# Altium footprint library SamacSys.PcbLib: 25 footprints (part 1 of 2)
Each footprint in its own frame and in the unit in brackets; x right, y up, seen from the top. Pads: shape width x height; smd on the part's side, far side on the other; paste and mask are expansions set on the pad; w line width, h text height; cw(c..) or ccw(c..) is an arc to the next point about the centre after c.
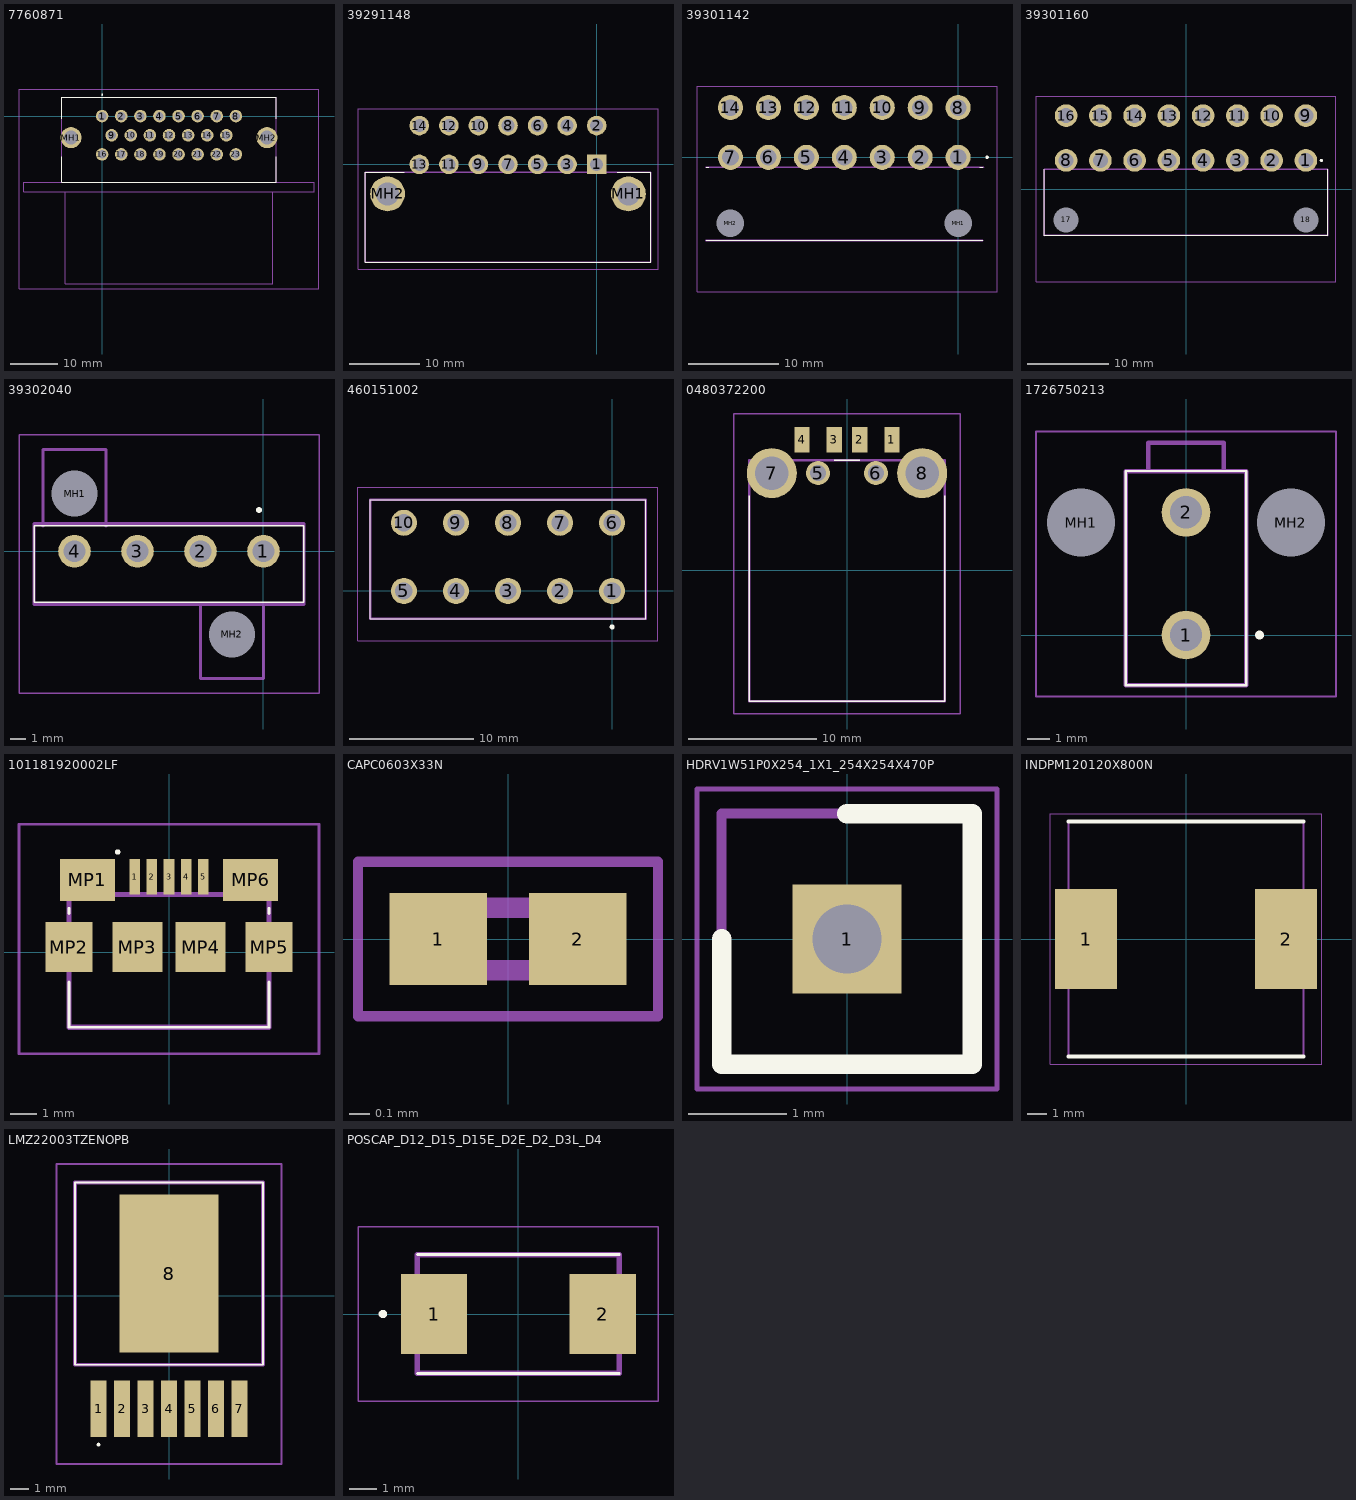
[diagram p0: the footprints below, top view; thin cyan lines are the x and y axes]

## 7760871 [mm]
pads (25):
  round 2.625 hole 1.75: 1(0,0) 2(4,0) 3(8,0) 4(12,0) 5(16,0) 6(20,0) 7(24,0) 8(28,0) 9(2,-4) 10(6,-4) 11(10,-4) 12(14,-4) 13(18,-4) 14(22,-4) 15(26,-4) 16(0,-8) 17(4,-8) 18(8,-8) 19(12,-8) 20(16,-8) 21(20,-8) 22(24,-8) 23(28,-8)
  round 4.395 hole 2.93: MH1(-6.5,-4.5) MH2(34.5,-4.5)
Top Overlay:
  lines w0.1: -8.5,-8.5 -8.5,-13.8 36.5,-13.8 36.5,-8.5 ; -8.5,-0.5 -8.5,4 36.5,4 36.5,-0.5
  lines w0.2: -0.1,4.5 ccw(c0,4.5) 0.1,4.5 ccw(c0,4.5) -0.1,4.5
Mechanical 13:
  lines w0.2: -7.7,-15.8 -7.7,-35.1 35.7,-35.1 35.7,-15.8 ; -8.5,-13.8 -16.4,-13.8 -16.4,-15.8 44.4,-15.8 44.4,-13.8 36.5,-13.8 ; -8.5,-13.8 -8.5,4 36.5,4 36.5,-13.8 ; -8.5,-13.8 36.5,-13.8
Mechanical 15:
  lines w0.1: -17.4,-36.1 -17.4,5.6 45.4,5.6 45.4,-36.1 -17.4,-36.1
3D body "776087-1.stp": height 27.48, standoff -4.62, extent -16.4,-35.73 44.4,2.07

## 39291148 [mm]
pads (16):
  rect 2.775x2.775 hole 1.85: 1(0,0)
  round 2.775 hole 1.85: 2(0,5.5) 3(-4.2,0) 4(-4.2,5.5) 5(-8.4,0) 6(-8.4,5.5) 7(-12.6,0) 8(-12.6,5.5) 9(-16.8,0) 10(-16.8,5.5) 11(-21,0) 12(-21,5.5) 13(-25.2,0) 14(-25.2,5.5)
  round 4.95 hole 3.3: MH1(4.5,-4.2) MH2(-29.7,-4.2)
Top Overlay:
  lines w0.1: -32.9,-1.1 -32.9,-13.9 -32.9,-1.1 ; -32.9,-1.1 -27.35,-1.1 -32.9,-1.1 ; 7.7,-13.9 7.7,-1.1 ; 7.7,-13.9 7.7,-1.1 ; 7.7,-13.9 -32.85,-13.9 7.7,-13.9 ; 7.7,-1.1 2.9,-1.1 7.7,-1.1
Mechanical 13:
  lines w0.2: -32.9,-13.9 -32.9,-1.1 7.7,-1.1 7.7,-13.9 -32.9,-13.9
Mechanical 15:
  lines w0.1: -33.9,-14.9 -33.9,7.887 8.7,7.887 8.7,-14.9 -33.9,-14.9
3D body "39-29-1148.stp": height 11.4, standoff -3.5, extent -32.92,-13.87 7.68,6.065

## 39301142 [mm]
pads (16):
  round 2.775 hole 1.85: 1(0,0) 2(-4.2,0) 3(-8.4,0) 4(-12.6,0) 5(-16.8,0) 6(-21,0) 7(-25.2,0) 8(0,5.5) 9(-4.2,5.5) 10(-8.4,5.5) 11(-12.6,5.5) 12(-16.8,5.5) 13(-21,5.5) 14(-25.2,5.5)
  round 1.525 hole 3.05 unplated: MH1(0,-7.3) MH2(-25.2,-7.3)
Top Overlay:
  lines w0.1: -27.9,-9.201 2.7,-9.201 ; -27.9,-1.1 -27.6,-1.1 ; 2.4,-1.1 2.7,-1.1
  lines w0.2: 3.1,0 ccw(c3.2,0) 3.3,0 ccw(c3.2,0) 3.1,0
Mechanical 13:
  lines w0.2: -27.9,-9.201 2.7,-9.201 ; -27.9,-1.1 2.794,-1.1
Mechanical 15:
  lines w0.1: -28.9,-14.9 -28.9,7.888 4.3,7.888 4.3,-14.9 -28.9,-14.9
3D body "39-30-1140.stp": height 11.4, standoff -3.6, extent -27.82,-13.87 3.18,6.065

## 39301160 [mm]
pads (18):
  round 2.775 hole 1.85: 1(14.7,3.506) 2(10.5,3.506) 3(6.3,3.506) 4(2.1,3.506) 5(-2.1,3.506) 6(-6.3,3.506) 7(-10.5,3.506) 8(-14.7,3.506) 9(14.7,9.006) 10(10.5,9.006) 11(6.3,9.006) 12(2.1,9.006) 13(-2.1,9.006) 14(-6.3,9.006) 15(-10.5,9.006) 16(-14.7,9.006)
  round 1.525 hole 3.05 unplated: 17(-14.7,-3.794) 18(14.7,-3.794)
Top Overlay:
  lines w0.1: -17.4,-5.715 -17.4,2.406 ; -17.4,-5.695 17.4,-5.695 ; 17.4,-5.715 17.4,2.406
  lines w0.2: 16.6,3.406 cw(c16.6,3.506) 16.6,3.606 cw(c16.6,3.506) 16.6,3.406
Mechanical 13:
  lines w0.2: -17.4,-5.715 -17.4,2.406 17.4,2.406 17.4,-5.715 ; -17.4,-5.695 -8.7,-5.695 8.7,-5.695 17.4,-5.695
Mechanical 15:
  lines w0.1: -18.4,-11.394 -18.4,11.394 18.4,11.394 18.4,-11.394 -18.4,-11.394
3D body "39-30-0160.stp": height 11.4, standoff -3.6, extent -17.33,-10.38 17.87,9.555

## 39302040 [mm]
pads (6):
  round 2.175 hole 1.45: 1(0,0) 2(-4.2,0) 3(-8.4,0) 4(-12.6,0)
  round 1.525 hole 3.05 unplated: MH1(-12.6,3.85) MH2(-2.1,-5.55)
Top Overlay:
  lines w0.1: -15.3,-3.39 2.7,-3.39 2.7,1.69 -15.3,1.69 -15.3,-3.39
  lines w0.2: -0.3,2.65 ccw(c-0.3,2.75) -0.3,2.85 ccw(c-0.3,2.75) -0.3,2.65
Mechanical 13:
  lines w0.2: -14.7,1.69 -14.7,6.77 -10.5,6.77 -10.5,1.69 ; -4.2,-3.55 -4.2,-8.47 0,-8.47 0,-3.55 ; -15.3,-3.55 2.7,-3.55 2.7,1.85 -15.3,1.85 -15.3,-3.55
Mechanical 15:
  lines w0.1: -16.3,-9.47 3.7,-9.47 3.7,7.77 -16.3,7.77 -16.3,-9.47
3D body "39-30-2040.stp": height 12.71, standoff -3.59, extent -15.3,-6.629 2.7,4.929

## 460151002 [mm]
pads (10):
  round 2.1 hole 1.4: 1(0,0) 2(-4.2,0) 3(-8.4,0) 4(-12.6,0) 5(-16.8,0) 6(0,5.5) 7(-4.2,5.5) 8(-8.4,5.5) 9(-12.6,5.5) 10(-16.8,5.5)
Top Overlay:
  lines w0.1: -19.5,-2.25 -19.5,7.35 2.7,7.35 2.7,-2.25 -19.5,-2.25
  lines w0.2: -0.1,-2.9 cw(c0,-2.9) 0.1,-2.9 cw(c0,-2.9) -0.1,-2.9
Mechanical 13:
  lines w0.2: -19.5,-2.25 -19.5,7.35 2.7,7.35 2.7,-2.25 -19.5,-2.25
Mechanical 15:
  lines w0.1: -20.5,-4 -20.5,8.35 3.7,8.35 3.7,-4 -20.5,-4
3D body "46015-1002.stp": height 12.72, standoff -3.58, extent -19.5,-2.3 3.1,8.8

## 0480372200 [mm]
pads (8):
  rect 1.2x2 smd: 1(3.5,10.175) 2(1,10.175) 3(-1,10.175) 4(-3.5,10.175)
  round 1.875 hole 1.25: 5(-2.25,7.575) 6(2.25,7.575)
  round 3.894 hole 2.596: 7(-5.85,7.575) 8(5.85,7.575)
Top Overlay:
  lines w0.1: -7.62,5.825 -7.62,-10.175 7.62,-10.175 7.62,5.825 ; -1,8.575 1,8.575
Mechanical 13:
  lines w0.2: -7.62,-10.175 -7.62,8.575 7.62,8.575 7.62,-10.175 -7.62,-10.175
Mechanical 15:
  lines w0.1: -8.797,-11.175 -8.797,12.175 8.797,12.175 8.797,-11.175 -8.797,-11.175
3D body "0480372200.stp": height 2.15, standoff -2.35, extent -6.025,-9.975 6.025,10.975

## 1726750213 [mm]
pads (4):
  round 2.175 hole 1.45: 1(0,0) 2(0,5.5)
  round 1.525 hole 3.05 unplated: MH1(-4.7,5.04) MH2(4.7,5.04)
Top Overlay:
  lines w0.1: -2.7,-2.25 -2.7,7.35 2.7,7.35 2.7,-2.25 -2.7,-2.25
  lines w0.2: 3.3,-0.1 ccw(c3.3,0) 3.3,0.1 ccw(c3.3,0) 3.3,-0.1
Mechanical 13:
  lines w0.2: -2.7,-2.25 -2.7,7.35 2.7,7.35 2.7,-2.25 -2.7,-2.25 ; -1.7,7.35 -1.7,8.62 1.7,8.62 1.7,7.35 -1.7,7.35
Mechanical 15:
  lines w0.1: -6.725,-2.75 -6.725,9.12 6.725,9.12 6.725,-2.75 -6.725,-2.75
3D body "172675-0213.stp": height 12.88, standoff -3.42, extent -6.089,-2.32 6.089,8.68

## 101181920002LF [mm]
pads (11):
  rect 0.4x1.35 smd: 1(-1.3,2.862) 2(-0.65,2.862) 3(0,2.862) 4(0.65,2.862) 5(1.3,2.862)
  rect 2.1x1.6 smd: MP1(-3.1,2.737) MP6(3.1,2.737)
  rect 1.8x1.9 smd: MP2(-3.8,0.188) MP5(3.8,0.188)
  rect 1.9x1.9 smd: MP3(-1.2,0.188) MP4(1.2,0.188)
Top Overlay:
  lines w0.1: -3.8,-1.138 -3.8,-2.862 3.8,-2.862 3.8,-1.138 ; -3.8,1.462 -3.8,1.662 ; 3.8,1.462 3.8,1.662 ; -2,3.8 cw(c-1.95,3.8) -1.9,3.8 cw(c-1.95,3.8) -2,3.8
Mechanical 13:
  lines w0.2: -3.8,-2.862 -3.8,2.188 3.8,2.188 3.8,-2.862 -3.8,-2.862
Mechanical 15:
  lines w0.1: -5.7,-3.862 -5.7,4.85 5.7,4.85 5.7,-3.862 -5.7,-3.862
3D body "10118192-0002LF.stp": height 2.77, standoff 0, extent -3.95,-1.95 3.95,3.15

## CAPC0603X33N [mm]
pads (2):
  rect 0.47x0.44 smd: 1(-0.335,0) 2(0.335,0)
Mechanical 13:
  lines w0.1: -0.3,-0.15 -0.3,0.15 0.3,0.15 0.3,-0.15 -0.3,-0.15
Mechanical 15:
  lines w0.05: -0.72,-0.37 -0.72,0.37 0.72,0.37 0.72,-0.37 -0.72,-0.37
3D body "02013A120GAT2A.stp": height 0.33, standoff 0, extent -0.3,-0.15 0.3,0.15

## HDRV1W51P0X254_1X1_254X254X470P [mm]
pads (1):
  rect 1.1x1.1 hole 0.7: 1(0,0)
Top Overlay:
  lines w0.2: -1.27,0 -1.27,-1.27 1.27,-1.27 1.27,1.27 0,1.27
Mechanical 13:
  lines w0.1: -1.27,-1.27 1.27,-1.27 1.27,1.27 -1.27,1.27 -1.27,-1.27
Mechanical 15:
  lines w0.05: -1.52,-1.52 1.52,-1.52 1.52,1.52 -1.52,1.52 -1.52,-1.52
3D body "380-10-101-00-002000.stp": height 4.7, standoff -3.05, extent -1.27,-1.27 1.27,1.27

## INDPM120120X800N [mm]
pads (2):
  rect 3.15x5.1 smd: 1(-5.1,0) 2(5.1,0)
Top Overlay:
  lines w0.2: -6,-6 6,-6 ; -6,6 6,6
Mechanical 13:
  lines w0.1: -6,-6 -6,6 6,6 6,-6 -6,-6
Mechanical 15:
  lines w0.05: -6.925,-6.4 -6.925,6.4 6.925,6.4 6.925,-6.4 -6.925,-6.4
3D body "CDRH127_LDNP-150MC.stp": height 8, standoff 0, extent -6,-6 6,6

## LMZ22003TZENOPB [mm]
pads (8):
  rect 0.89x3.06 smd: 1(-3.81,-6.115) 2(-2.54,-6.115) 3(-1.27,-6.115) 4(0,-6.115) 5(1.27,-6.115) 6(2.54,-6.115) 7(3.81,-6.115)
  rect 5.35x8.54 smd: 8(0,1.19)
Top Overlay:
  lines w0.1: -5.08,-3.735 -5.08,6.115 5.08,6.115 5.08,-3.735 -5.08,-3.735 ; -3.81,-8.1 ccw(c-3.81,-8.05) -3.81,-8 ccw(c-3.81,-8.05) -3.81,-8.1
Mechanical 13:
  lines w0.2: -5.08,-3.735 -5.08,6.115 5.08,6.115 5.08,-3.735 -5.08,-3.735
Mechanical 15:
  lines w0.1: -6.08,-9.1 -6.08,7.115 6.08,7.115 6.08,-9.1 -6.08,-9.1
3D body "LMZ22003TZE_NOPB.stp": height 8.84, standoff -4.92, extent -5.08,-0.6 5.08,4.17

## PCBComponent_1 [mm]

## PCBComponent_1 - duplicate [mm]

## POSCAP_D12_D15_D15E_D2E_D2_D3L_D4 [mm]
pads (2):
  rect 2.4x2.9 smd: 1(-3.05,0) 2(3.05,0)
Top Overlay:
  circle w0.2: c-4.9,0 r0.05
  lines w0.1: -3.65,-2.15 3.65,-2.15 ; -3.65,2.15 3.65,2.15
Mechanical 13:
  lines w0.2: -3.65,-2.15 -3.65,2.15 3.65,2.15 3.65,-2.15 -3.65,-2.15
Mechanical 15:
  lines w0.05: -5.8,-3.15 -5.8,3.15 5.05,3.15 5.05,-3.15 -5.8,-3.15
3D body "6TPF220M9L.stp": height 1.57, standoff 1.57, extent 0,0 0,0